# Altium schematic symbol library WR-WTB_1.50mm.SchLib: 27 symbols
Pins are listed as number, name and electrical type; pins without a type are passive.

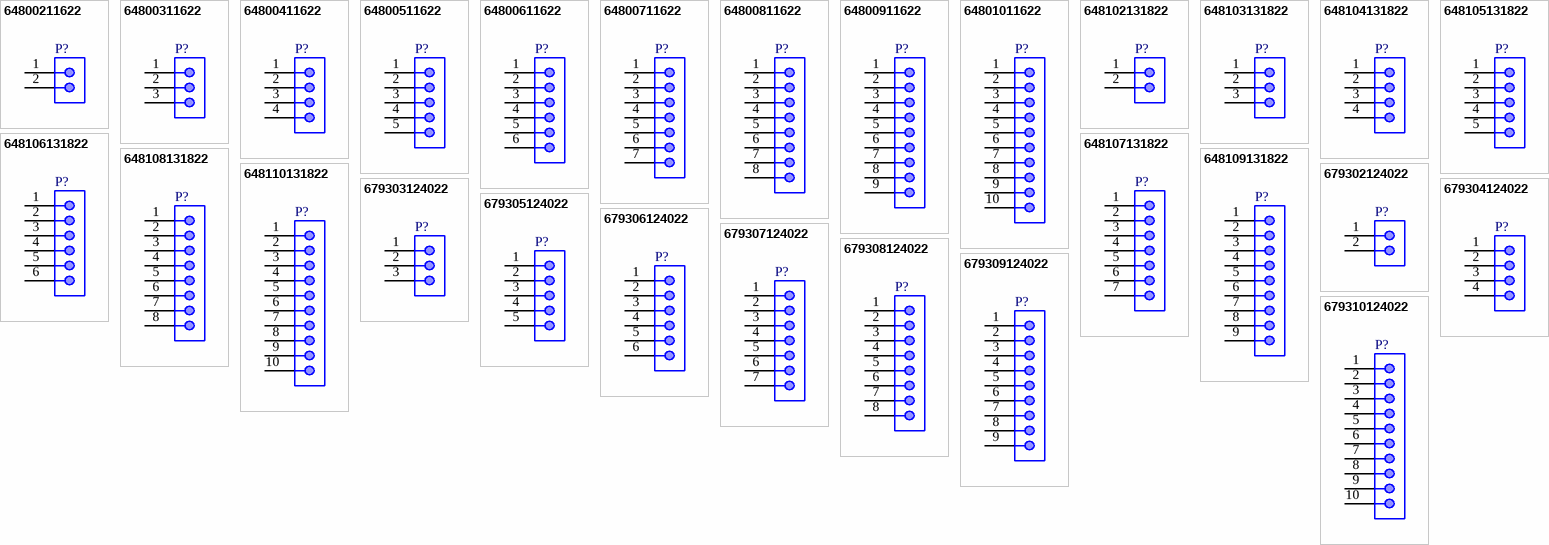
[diagram p0: symbols 64800211622 to 679310124022]

## 64800211622
designator P?
WR-WTB THT Male Vertical Shrouded Header, pitch 1.5mm, 2p; Part Number: 64800211622; Pin Number: 2; Contact Resistance: 20mOhm; Rated Current: 1A; Withstanding Voltage: 500VAC; Working Voltage: 50VAC; ComponentLink1Description: Manufacturer; ComponentLink1URL: http://www.we-online.de; ComponentLink2Description: Datasheet; ComponentLink2URL: https://www.we-online.com/catalog/datasheet/64800211622.pdf; Pitch: 1.5mm; Published Date: January 2020; Publisher: Wurth Elektronik; Mounting Technology: THT; Packaging: Bag; Operating Temperature: -25 to +85degC; Gender: Male; Type: Vertical
footprint 64800211622
pins: 1, 2

## 64800311622
designator P?
WR-WTB THT Male Vertical Shrouded Header, pitch 1.5mm, 3p; Part Number: 64800311622; Pin Number: 3; Contact Resistance: 20mOhm; Rated Current: 1A; Withstanding Voltage: 500VAC; Working Voltage: 50VAC; ComponentLink1Description: Manufacturer; ComponentLink1URL: http://www.we-online.de; ComponentLink2Description: Datasheet; ComponentLink2URL: https://www.we-online.com/catalog/datasheet/64800311622.pdf; Pitch: 1.5mm; Published Date: January 2020; Publisher: Wurth Elektronik; Mounting Technology: THT; Packaging: Bag; Operating Temperature: -25 to +85degC; Gender: Male; Type: Vertical
footprint 64800311622
pins: 1, 2, 3

## 64800411622
designator P?
WR-WTB THT Male Vertical Shrouded Header, pitch 1.5mm, 4p; Part Number: 64800411622; Pin Number: 4; Contact Resistance: 20mOhm; Rated Current: 1A; Withstanding Voltage: 500VAC; Working Voltage: 50VAC; ComponentLink1Description: Manufacturer; ComponentLink1URL: http://www.we-online.de; ComponentLink2Description: Datasheet; ComponentLink2URL: https://www.we-online.com/catalog/datasheet/64800411622.pdf; Pitch: 1.5mm; Published Date: January 2020; Publisher: Wurth Elektronik; Mounting Technology: THT; Packaging: Bag; Operating Temperature: -25 to +85degC; Gender: Male; Type: Vertical
footprint 64800411622
pins: 1, 2, 3, 4

## 64800511622
designator P?
WR-WTB THT Male Vertical Shrouded Header, pitch 1.5mm, 5p; Part Number: 64800511622; Pin Number: 5; Contact Resistance: 20mOhm; Rated Current: 1A; Withstanding Voltage: 500VAC; Working Voltage: 50VAC; ComponentLink1Description: Manufacturer; ComponentLink1URL: http://www.we-online.de; ComponentLink2Description: Datasheet; ComponentLink2URL: https://www.we-online.com/catalog/datasheet/64800511622.pdf; Pitch: 1.5mm; Published Date: January 2020; Publisher: Wurth Elektronik; Mounting Technology: THT; Packaging: Bag; Operating Temperature: -25 to +85degC; Gender: Male; Type: Vertical
footprint 64800511622
pins: 1, 2, 3, 4, 5

## 64800611622
designator P?
WR-WTB THT Male Vertical Shrouded Header, pitch 1.5mm, 6p; Part Number: 64800611622; Pin Number: 6; Contact Resistance: 20mOhm; Rated Current: 1A; Withstanding Voltage: 500VAC; Working Voltage: 50VAC; ComponentLink1Description: Manufacturer; ComponentLink1URL: http://www.we-online.de; ComponentLink2Description: Datasheet; ComponentLink2URL: https://www.we-online.com/catalog/datasheet/64800611622.pdf; Pitch: 1.5mm; Published Date: January 2020; Publisher: Wurth Elektronik; Mounting Technology: THT; Packaging: Bag; Operating Temperature: -25 to +85degC; Gender: Male; Type: Vertical
footprint 64800611622
pins: 1, 2, 3, 4, 5, 6

## 64800711622
designator P?
WR-WTB THT Male Vertical Shrouded Header, pitch 1.5mm, 7p; Part Number: 64800711622; Pin Number: 7; Contact Resistance: 20mOhm; Rated Current: 1A; Withstanding Voltage: 500VAC; Working Voltage: 50VAC; ComponentLink1Description: Manufacturer; ComponentLink1URL: http://www.we-online.de; ComponentLink2Description: Datasheet; ComponentLink2URL: https://www.we-online.com/catalog/datasheet/64800711622.pdf; Pitch: 1.5mm; Published Date: January 2020; Publisher: Wurth Elektronik; Mounting Technology: THT; Packaging: Bag; Operating Temperature: -25 to +85degC; Gender: Male; Type: Vertical
footprint 64800711622
pins: 1, 2, 3, 4, 5, 6, 7

## 64800811622
designator P?
WR-WTB THT Male Vertical Shrouded Header, pitch 1.5mm, 8p; Part Number: 64800811622; Pin Number: 8; Contact Resistance: 20mOhm; Rated Current: 1A; Withstanding Voltage: 500VAC; Working Voltage: 50VAC; ComponentLink1Description: Manufacturer; ComponentLink1URL: http://www.we-online.de; ComponentLink2Description: Datasheet; ComponentLink2URL: https://www.we-online.com/catalog/datasheet/64800811622.pdf; Pitch: 1.5mm; Published Date: January 2020; Publisher: Wurth Elektronik; Mounting Technology: THT; Packaging: Bag; Operating Temperature: -25 to +85degC; Gender: Male; Type: Vertical
footprint 64800811622
pins: 1, 2, 3, 4, 5, 6, 7, 8

## 64800911622
designator P?
WR-WTB THT Male Vertical Shrouded Header, pitch 1.5mm, 9p; Part Number: 64800911622; Pin Number: 9; Contact Resistance: 20mOhm; Rated Current: 1A; Withstanding Voltage: 500VAC; Working Voltage: 50VAC; ComponentLink1Description: Manufacturer; ComponentLink1URL: http://www.we-online.de; ComponentLink2Description: Datasheet; ComponentLink2URL: https://www.we-online.com/catalog/datasheet/64800911622.pdf; Pitch: 1.5mm; Published Date: January 2020; Publisher: Wurth Elektronik; Mounting Technology: THT; Packaging: Bag; Operating Temperature: -25 to +85degC; Gender: Male; Type: Vertical
footprint 64800911622
pins: 1, 2, 3, 4, 5, 6, 7, 8, 9

## 64801011622
designator P?
WR-WTB THT Male Vertical Shrouded Header, pitch 1.5mm, 10p; Part Number: 64801011622; Pin Number: 10; Contact Resistance: 20mOhm; Rated Current: 1A; Withstanding Voltage: 500VAC; Working Voltage: 50VAC; ComponentLink1Description: Manufacturer; ComponentLink1URL: http://www.we-online.de; ComponentLink2Description: Datasheet; ComponentLink2URL: https://www.we-online.com/catalog/datasheet/64801011622.pdf; Pitch: 1.5mm; Published Date: January 2020; Publisher: Wurth Elektronik; Mounting Technology: THT; Packaging: Bag; Operating Temperature: -25 to +85degC; Gender: Male; Type: Vertical
footprint 64801011622
pins: 1, 2, 3, 4, 5, 6, 7, 8, 9, 10

## 648102131822
designator P?
WR-WTB SMT Male Horizontal Shrouded Header, pitch 1.5mm, 2p; Part Number: 648102131822; Pin Number: 2; Contact Resistance: 20mOhm; Rated Current: 1A; Withstanding Voltage: 500VAC; Working Voltage: 50VAC; ComponentLink1Description: Manufacturer; ComponentLink1URL: http://www.we-online.de; ComponentLink2Description: Datasheet; ComponentLink2URL: https://www.we-online.com/catalog/datasheet/648102131822.pdf; Pitch: 1.5mm; Published Date: January 2020; Publisher: Wurth Elektronik; Mounting Technology: SMT; Packaging: Tape and Reel; Operating Temperature: -25 to +85degC; Gender: Male; Type: Horizontal
footprint 648102131822
pins: 1, 2

## 648103131822
designator P?
WR-WTB SMT Male Horizontal Shrouded Header, pitch 1.5mm, 3p; Part Number: 648103131822; Pin Number: 3; Contact Resistance: 20mOhm; Rated Current: 1A; Withstanding Voltage: 500VAC; Working Voltage: 50VAC; ComponentLink1Description: Manufacturer; ComponentLink1URL: http://www.we-online.de; ComponentLink2Description: Datasheet; ComponentLink2URL: https://www.we-online.com/catalog/datasheet/648103131822.pdf; Pitch: 1.5mm; Published Date: January 2020; Publisher: Wurth Elektronik; Mounting Technology: SMT; Packaging: Tape and Reel; Operating Temperature: -25 to +85degC; Gender: Male; Type: Horizontal
footprint 648103131822
pins: 1, 2, 3

## 648104131822
designator P?
WR-WTB SMT Male Horizontal Shrouded Header, pitch 1.5mm, 4p; Part Number: 648104131822; Pin Number: 4; Contact Resistance: 20mOhm; Rated Current: 1A; Withstanding Voltage: 500VAC; Working Voltage: 50VAC; ComponentLink1Description: Manufacturer; ComponentLink1URL: http://www.we-online.de; ComponentLink2Description: Datasheet; ComponentLink2URL: https://www.we-online.com/catalog/datasheet/648104131822.pdf; Pitch: 1.5mm; Published Date: January 2020; Publisher: Wurth Elektronik; Mounting Technology: SMT; Packaging: Tape and Reel; Operating Temperature: -25 to +85degC; Gender: Male; Type: Horizontal
footprint 648104131822
pins: 1, 2, 3, 4

## 648105131822
designator P?
WR-WTB SMT Male Horizontal Shrouded Header, pitch 1.5mm, 5p; Part Number: 648105131822; Pin Number: 5; Contact Resistance: 20mOhm; Rated Current: 1A; Withstanding Voltage: 500VAC; Working Voltage: 50VAC; ComponentLink1Description: Manufacturer; ComponentLink1URL: http://www.we-online.de; ComponentLink2Description: Datasheet; ComponentLink2URL: https://www.we-online.com/catalog/datasheet/648105131822.pdf; Pitch: 1.5mm; Published Date: January 2020; Publisher: Wurth Elektronik; Mounting Technology: SMT; Packaging: Tape and Reel; Operating Temperature: -25 to +85degC; Gender: Male; Type: Horizontal
footprint 648105131822
pins: 1, 2, 3, 4, 5

## 648106131822
designator P?
WR-WTB SMT Male Horizontal Shrouded Header, pitch 1.5mm, 6p; Part Number: 648106131822; Pin Number: 6; Contact Resistance: 20mOhm; Rated Current: 1A; Withstanding Voltage: 500VAC; Working Voltage: 50VAC; ComponentLink1Description: Manufacturer; ComponentLink1URL: http://www.we-online.de; ComponentLink2Description: Datasheet; ComponentLink2URL: https://www.we-online.com/catalog/datasheet/648106131822.pdf; Pitch: 1.5mm; Published Date: January 2020; Publisher: Wurth Elektronik; Mounting Technology: SMT; Packaging: Tape and Reel; Operating Temperature: -25 to +85degC; Gender: Male; Type: Horizontal
footprint 648106131822
pins: 1, 2, 3, 4, 5, 6

## 648107131822
designator P?
WR-WTB SMT Male Horizontal Shrouded Header, pitch 1.5mm, 7p; Part Number: 648107131822; Pin Number: 7; Contact Resistance: 20mOhm; Rated Current: 1A; Withstanding Voltage: 500VAC; Working Voltage: 50VAC; ComponentLink1Description: Manufacturer; ComponentLink1URL: http://www.we-online.de; ComponentLink2Description: Datasheet; ComponentLink2URL: https://www.we-online.com/catalog/datasheet/648107131822.pdf; Pitch: 1.5mm; Published Date: January 2020; Publisher: Wurth Elektronik; Mounting Technology: SMT; Packaging: Tape and Reel; Operating Temperature: -25 to +85degC; Gender: Male; Type: Horizontal
footprint 648107131822
pins: 1, 2, 3, 4, 5, 6, 7

## 648108131822
designator P?
WR-WTB SMT Male Horizontal Shrouded Header, pitch 1.5mm, 8p; Part Number: 648108131822; Pin Number: 8; Contact Resistance: 20mOhm; Rated Current: 1A; Withstanding Voltage: 500VAC; Working Voltage: 50VAC; ComponentLink1Description: Manufacturer; ComponentLink1URL: http://www.we-online.de; ComponentLink2Description: Datasheet; ComponentLink2URL: https://www.we-online.com/catalog/datasheet/648108131822.pdf; Pitch: 1.5mm; Published Date: January 2020; Publisher: Wurth Elektronik; Mounting Technology: SMT; Packaging: Tape and Reel; Operating Temperature: -25 to +85degC; Gender: Male; Type: Horizontal
footprint 648108131822
pins: 1, 2, 3, 4, 5, 6, 7, 8

## 648109131822
designator P?
WR-WTB SMT Male Horizontal Shrouded Header, pitch 1.5mm, 9p; Part Number: 648109131822; Pin Number: 9; Contact Resistance: 20mOhm; Rated Current: 1A; Withstanding Voltage: 500VAC; Working Voltage: 50VAC; ComponentLink1Description: Manufacturer; ComponentLink1URL: http://www.we-online.de; ComponentLink2Description: Datasheet; ComponentLink2URL: https://www.we-online.com/catalog/datasheet/648109131822.pdf; Pitch: 1.5mm; Published Date: January 2020; Publisher: Wurth Elektronik; Mounting Technology: SMT; Packaging: Tape and Reel; Operating Temperature: -25 to +85degC; Gender: Male; Type: Horizontal
footprint 648109131822
pins: 1, 2, 3, 4, 5, 6, 7, 8, 9

## 648110131822
designator P?
WR-WTB SMT Male Horizontal Shrouded Header, pitch 1.5mm, 10p; Part Number: 648110131822; Pin Number: 10; Contact Resistance: 20mOhm; Rated Current: 1A; Withstanding Voltage: 500VAC; Working Voltage: 50VAC; ComponentLink1Description: Manufacturer; ComponentLink1URL: http://www.we-online.de; ComponentLink2Description: Datasheet; ComponentLink2URL: https://www.we-online.com/catalog/datasheet/648110131822.pdf; Pitch: 1.5mm; Published Date: January 2020; Publisher: Wurth Elektronik; Mounting Technology: SMT; Packaging: Tape and Reel; Operating Temperature: -25 to +85degC; Gender: Male; Type: Horizontal
footprint 648110131822
pins: 1, 2, 3, 4, 5, 6, 7, 8, 9, 10

## 679302124022
designator P?
WR-WTB SMT Male Vertical Shrouded Header, pitch 1.5mm, 2p; Part Number: 679302124022; Pin Number: 2; Contact Resistance: 20mOhm; Rated Current: 1A; Withstanding Voltage: 500VAC; Working Voltage: 50VAC; ComponentLink1Description: Manufacturer; ComponentLink1URL: http://www.we-online.de; ComponentLink2Description: Datasheet; ComponentLink2URL: https://www.we-online.com/catalog/datasheet/679302124022.pdf; Pitch: 1.5mm; Published Date: January 2020; Publisher: Wurth Elektronik; Mounting Technology: SMT; Packaging: Tape and Reel; Operating Temperature: -25 to +85degC; Gender: Male; Type: Vertical
footprint 679302124022
pins: 1, 2

## 679303124022
designator P?
WR-WTB SMT Male Vertical Shrouded Header, pitch 1.5mm, 3p; Part Number: 679303124022; Pin Number: 3; Contact Resistance: 20mOhm; Rated Current: 1A; Withstanding Voltage: 500VAC; Working Voltage: 50VAC; ComponentLink1Description: Manufacturer; ComponentLink1URL: http://www.we-online.de; ComponentLink2Description: Datasheet; ComponentLink2URL: https://www.we-online.com/catalog/datasheet/679303124022.pdf; Pitch: 1.5mm; Published Date: January 2020; Publisher: Wurth Elektronik; Mounting Technology: SMT; Packaging: Tape and Reel; Operating Temperature: -25 to +85degC; Gender: Male; Type: Vertical
footprint 679303124022
pins: 1, 2, 3

## 679304124022
designator P?
WR-WTB SMT Male Vertical Shrouded Header, pitch 1.5mm, 4p; Part Number: 679304124022; Pin Number: 4; Contact Resistance: 20mOhm; Rated Current: 1A; Withstanding Voltage: 500VAC; Working Voltage: 50VAC; ComponentLink1Description: Manufacturer; ComponentLink1URL: http://www.we-online.de; ComponentLink2Description: Datasheet; ComponentLink2URL: https://www.we-online.com/catalog/datasheet/679304124022.pdf; Pitch: 1.5mm; Published Date: January 2020; Publisher: Wurth Elektronik; Mounting Technology: SMT; Packaging: Tape and Reel; Operating Temperature: -25 to +85degC; Gender: Male; Type: Vertical
footprint 679304124022
pins: 1, 2, 3, 4

## 679305124022
designator P?
WR-WTB SMT Male Vertical Shrouded Header, pitch 1.5mm, 5p; Part Number: 679305124022; Pin Number: 5; Contact Resistance: 20mOhm; Rated Current: 1A; Withstanding Voltage: 500VAC; Working Voltage: 50VAC; ComponentLink1Description: Manufacturer; ComponentLink1URL: http://www.we-online.de; ComponentLink2Description: Datasheet; ComponentLink2URL: https://www.we-online.com/catalog/datasheet/679305124022.pdf; Pitch: 1.5mm; Published Date: January 2020; Publisher: Wurth Elektronik; Mounting Technology: SMT; Packaging: Tape and Reel; Operating Temperature: -25 to +85degC; Gender: Male; Type: Vertical
footprint 679305124022
pins: 1, 2, 3, 4, 5

## 679306124022
designator P?
WR-WTB SMT Male Vertical Shrouded Header, pitch 1.5mm, 6p; Part Number: 679306124022; Pin Number: 6; Contact Resistance: 20mOhm; Rated Current: 1A; Withstanding Voltage: 500VAC; Working Voltage: 50VAC; ComponentLink1Description: Manufacturer; ComponentLink1URL: http://www.we-online.de; ComponentLink2Description: Datasheet; ComponentLink2URL: https://www.we-online.com/catalog/datasheet/679306124022.pdf; Pitch: 1.5mm; Published Date: January 2020; Publisher: Wurth Elektronik; Mounting Technology: SMT; Packaging: Tape and Reel; Operating Temperature: -25 to +85degC; Gender: Male; Type: Vertical
footprint 679306124022
pins: 1, 2, 3, 4, 5, 6

## 679307124022
designator P?
WR-WTB SMT Male Vertical Shrouded Header, pitch 1.5mm, 7p; Part Number: 679307124022; Pin Number: 7; Contact Resistance: 20mOhm; Rated Current: 1A; Withstanding Voltage: 500VAC; Working Voltage: 50VAC; ComponentLink1Description: Manufacturer; ComponentLink1URL: http://www.we-online.de; ComponentLink2Description: Datasheet; ComponentLink2URL: https://www.we-online.com/catalog/datasheet/679307124022.pdf; Pitch: 1.5mm; Published Date: January 2020; Publisher: Wurth Elektronik; Mounting Technology: SMT; Packaging: Tape and Reel; Operating Temperature: -25 to +85degC; Gender: Male; Type: Vertical
footprint 679307124022
pins: 1, 2, 3, 4, 5, 6, 7

## 679308124022
designator P?
WR-WTB SMT Male Vertical Shrouded Header, pitch 1.5mm, 8p; Part Number: 679308124022; Pin Number: 8; Contact Resistance: 20mOhm; Rated Current: 1A; Withstanding Voltage: 500VAC; Working Voltage: 50VAC; ComponentLink1Description: Manufacturer; ComponentLink1URL: http://www.we-online.de; ComponentLink2Description: Datasheet; ComponentLink2URL: https://www.we-online.com/catalog/datasheet/679308124022.pdf; Pitch: 1.5mm; Published Date: January 2020; Publisher: Wurth Elektronik; Mounting Technology: SMT; Packaging: Tape and Reel; Operating Temperature: -25 to +85degC; Gender: Male; Type: Vertical
footprint 679308124022
pins: 1, 2, 3, 4, 5, 6, 7, 8

## 679309124022
designator P?
WR-WTB SMT Male Vertical Shrouded Header, pitch 1.5mm, 9p; Part Number: 679309124022; Pin Number: 9; Contact Resistance: 20mOhm; Rated Current: 1A; Withstanding Voltage: 500VAC; Working Voltage: 50VAC; ComponentLink1Description: Manufacturer; ComponentLink1URL: http://www.we-online.de; ComponentLink2Description: Datasheet; ComponentLink2URL: https://www.we-online.com/catalog/datasheet/679309124022.pdf; Pitch: 1.5mm; Published Date: January 2020; Publisher: Wurth Elektronik; Mounting Technology: SMT; Packaging: Tape and Reel; Operating Temperature: -25 to +85degC; Gender: Male; Type: Vertical
footprint 679309124022
pins: 1, 2, 3, 4, 5, 6, 7, 8, 9

## 679310124022
designator P?
WR-WTB SMT Male Vertical Shrouded Header, pitch 1.5mm, 10p; Part Number: 679310124022; Pin Number: 10; Contact Resistance: 20mOhm; Rated Current: 1A; Withstanding Voltage: 500VAC; Working Voltage: 50VAC; ComponentLink1Description: Manufacturer; ComponentLink1URL: http://www.we-online.de; ComponentLink2Description: Datasheet; ComponentLink2URL: https://www.we-online.com/catalog/datasheet/679310124022.pdf; Pitch: 1.5mm; Published Date: January 2020; Publisher: Wurth Elektronik; Mounting Technology: SMT; Packaging: Tape and Reel; Operating Temperature: -25 to +85degC; Gender: Male; Type: Vertical
footprint 679310124022
pins: 1, 2, 3, 4, 5, 6, 7, 8, 9, 10